# Altium footprint library INF-PG-TO220-3-1.PcbLib: 1 footprints
Each footprint in its own frame and in the unit in brackets; x right, y up, seen from the top. Pads: shape width x height; smd on the part's side, far side on the other; paste and mask are expansions set on the pad; w line width, h text height; cw(c..) or ccw(c..) is an arc to the next point about the centre after c.
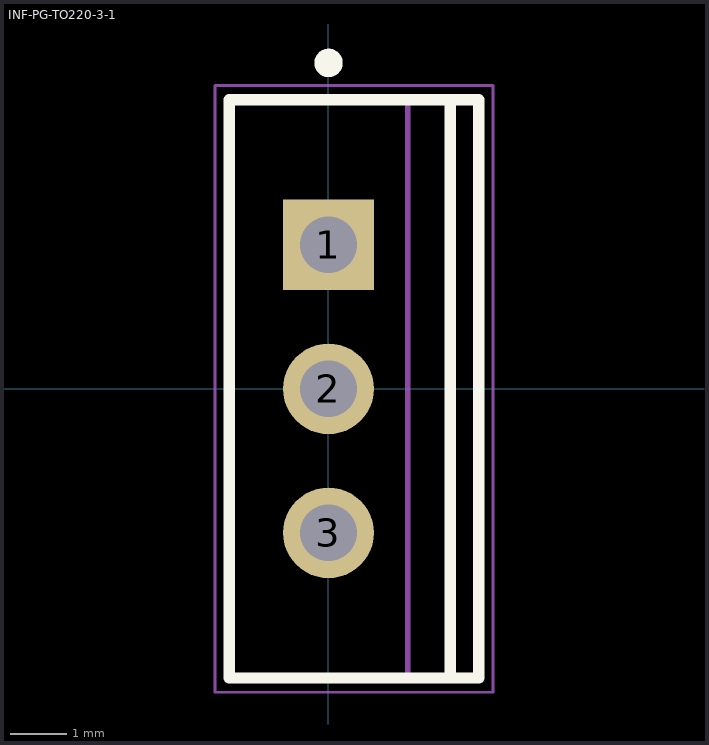
[diagram p0: the footprint, top view; thin cyan lines are the x and y axes]

## INF-PG-TO220-3-1 [mm] "FM, 3-Leads, Body 10x4.4mm, Pitch 2.54mm"
height 20.7
pads (3):
  rect 1.6x1.6 hole 1: 1(0,2.54)
  round 1.6 hole 1: 2(0,0) 3(0,-2.54)
Top Overlay:
  circle w0.25: c0,5.75 r0.125
  lines w0.2: 2.15,-5.1 2.15,5.1 ; -1.75,-5.1 -1.75,5.1 2.65,5.1 2.65,-5.1 -1.75,-5.1
Mechanical 13:
  lines w0.1: 1.4,-5.1 1.4,5.1 ; -1.75,-5.1 2.65,-5.1 2.65,5.1 -1.75,5.1 -1.75,-5.1
Mechanical 15:
  lines w0.05: -2,-5.35 2.9,-5.35 2.9,5.35 -2,5.35 -2,-5.35
  lines w0.1: -0.5,0 0.5,0 ; 0,-0.5 0,0.5
3D body: height 20.7, standoff 19.73, extent 1.4,-4.95 2.65,4.95
3D body: height 18.26, standoff 17.9, extent 1.4,-4.95 2.65,-1.825
3D body: height 18.26, standoff 17.9, extent 1.4,1.825 2.65,4.95
3D body: height 17.9, standoff 17.54, extent 1.4,-4.95 2.65,-1.825
3D body: height 17.9, standoff 17.54, extent 1.4,1.825 2.65,4.95
3D body: height 18.6, standoff 18.26, extent 1.4,-4.95 2.65,-1.79
3D body: height 18.6, standoff 18.26, extent 1.4,1.79 2.65,4.95
3D body: height 17.55, standoff 17.2, extent 1.4,-4.95 2.65,-1.79
3D body: height 17.55, standoff 17.2, extent 1.4,1.79 2.65,4.95
3D body: height 18.92, standoff 18.6, extent 1.4,-4.95 2.65,-1.686
3D body: height 18.92, standoff 18.6, extent 1.4,1.686 2.65,4.95
3D body: height 17.21, standoff 16.89, extent 1.4,-4.95 2.65,-1.686
3D body: height 17.21, standoff 16.89, extent 1.4,1.686 2.65,4.95
3D body: height 19.2, standoff 18.91, extent 1.4,-4.95 2.65,-1.517
3D body: height 19.2, standoff 18.91, extent 1.4,1.517 2.65,4.95
3D body: height 16.89, standoff 16.61, extent 1.4,-4.95 2.65,-1.517
3D body: height 16.89, standoff 16.61, extent 1.4,1.517 2.65,4.95
3D body: height 19.42, standoff 19.19, extent 1.4,-4.95 2.65,-1.29
3D body: height 19.42, standoff 19.19, extent 1.4,1.29 2.65,4.95
3D body: height 16.61, standoff 16.38, extent 1.4,-4.95 2.65,-1.29
3D body: height 16.61, standoff 16.38, extent 1.4,1.29 2.65,4.95
3D body: height 19.59, standoff 19.42, extent 1.4,-4.95 2.65,-1.014
3D body: height 19.59, standoff 19.42, extent 1.4,1.014 2.65,4.95
3D body: height 16.39, standoff 16.21, extent 1.4,-4.95 2.65,-1.014
3D body: height 16.39, standoff 16.21, extent 1.4,1.014 2.65,4.95
3D body: height 19.69, standoff 19.59, extent 1.4,-4.95 2.65,-0.698
3D body: height 19.69, standoff 19.59, extent 1.4,0.698 2.65,4.95
3D body: height 16.22, standoff 16.11, extent 1.4,-4.95 2.65,-0.698
3D body: height 16.22, standoff 16.11, extent 1.4,0.698 2.65,4.95
3D body: height 19.73, standoff 19.69, extent 1.4,-4.95 2.65,-0.356
3D body: height 19.73, standoff 19.69, extent 1.4,0.356 2.65,4.95
3D body: height 16.12, standoff 16.08, extent 1.4,-4.95 2.65,-0.356
3D body: height 16.12, standoff 16.08, extent 1.4,0.356 2.65,4.95
3D body: height 16.08, standoff 14.3, extent 1.4,-4.95 2.65,4.95
3D body: height 14.3, standoff 4.35, extent -1.75,-5.1 2.65,5.1
3D body: height 0, standoff -1.6, extent -0.25,-2.915 0.25,-2.165
3D body: height 4.35, standoff 0, extent -0.25,-3.065 0.25,-2.015
3D body: height 0, standoff -1.6, extent -0.25,-0.375 0.25,0.375
3D body: height 4.35, standoff 0, extent -0.25,-0.525 0.25,0.525
3D body: height 0, standoff -1.6, extent -0.25,2.165 0.25,2.915
3D body: height 4.35, standoff 0, extent -0.25,2.015 0.25,3.065